# EAGLE library part MX25R3235FM1IH0 (library MX25R3235FM1IH0)
MX25R3235 Series 32 Mb (x 1/x 2/x 4) 3.6 V Surface Mount Flash Memory - SOP-8 Check prices <https://pricing.snapeda.com/parts/MX25R3235FM1IH0/Macronix/view-part?ref=eda>
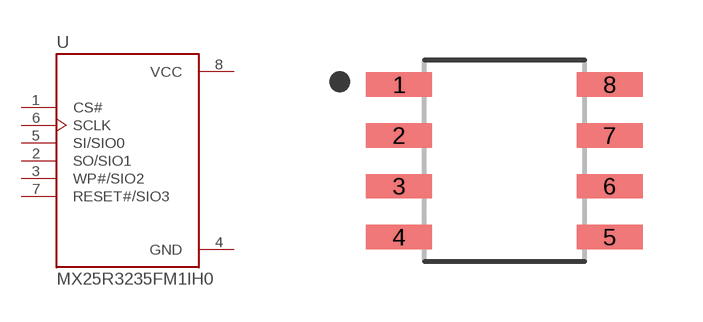
[diagram p0: symbol with the pads of SOIC127P600X175-8N; footprint SOIC127P600X175-8N]

Designator prefix U

## MX25R3235FM1IH0 (Availability: Good; Description: FLASH - NOR Memory IC 32Mb (4M x 8) SPI - Quad I/O 80MHz 8-SOP; MF: Macronix; MP: MX25R3235FM1IH0; Package: SOP-8 Macronix; Price: None; Purchase-URL: https://pricing.snapeda.com/search/part/MX25R3235FM1IH0/?ref=eda)  [SOIC127P600X175-8N]
1  CS#  in
2  SO/SIO1
3  WP#/SIO2
4  GND  pwr
5  SI/SIO0
6  SCLK  in
7  RESET#/SIO3
8  VCC  pwr

## Footprint SOIC127P600X175-8N (pad centres in mm)
smd 1.65 x 0.61: 1 -2.635,1.905; 2 -2.635,0.635; 3 -2.635,-0.635; 4 -2.635,-1.905; 5 2.635,-1.905; 6 2.635,-0.635; 7 2.635,0.635; 8 2.635,1.905